# Altium footprint library NPPC252KFMS-RC.PcbLib: 1 footprints
Each footprint in its own frame and in the unit in brackets; x right, y up, seen from the top. Pads: shape width x height; smd on the part's side, far side on the other; paste and mask are expansions set on the pad; w line width, h text height; cw(c..) or ccw(c..) is an arc to the next point about the centre after c.
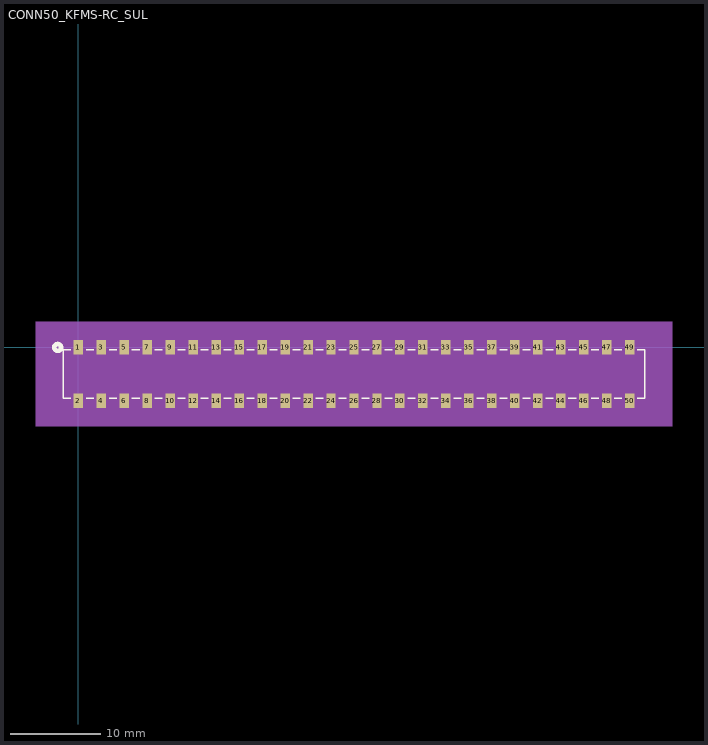
[diagram p0: the footprint, top view; thin cyan lines are the x and y axes]

## CONN50_KFMS-RC_SUL [mil]
pads (50):
  rect 41x63 smd paste+0 mask+0: 1(0,0) 2(0,-231) 3(100,0) 4(100,-231) 5(200,0) 6(200,-231) 7(300,0) 8(300,-231) 9(400,0) 10(400,-231) 11(500,0) 12(500,-231) 13(600,0) 14(600,-231) 15(700,0) 16(700,-231) 17(800,0) 18(800,-231) 19(900,0) 20(900,-231) 21(1000,0) 22(1000,-231) 23(1100,0) 24(1100,-231) 25(1200,0) 26(1200,-231) 27(1300,0) 28(1300,-231) 29(1400,0) 30(1400,-231) 31(1500,0) 32(1500,-231) 33(1600,0) 34(1600,-231) 35(1700,0) 36(1700,-231) 37(1800,0) 38(1800,-231) 39(1900,0) 40(1900,-231) 41(2000,0) 42(2000,-231) 43(2100,0) 44(2100,-231) 45(2200,0) 46(2200,-231) 47(2300,0) 48(2300,-231) 49(2400,0) 50(2400,-231)
Top Overlay:
  circle w20: c-90,0 r15
  lines w6: -33.6,-222 -65,-222 -65,-9 -33.6,-9 ; 33.6,-222 66.4,-222 ; 33.6,-9 66.4,-9 ; 133.6,-222 166.4,-222 ; 133.6,-9 166.4,-9 ; 233.6,-222 266.4,-222 ; 233.6,-9 266.4,-9 ; 333.6,-222 366.4,-222 ; 333.6,-9 366.4,-9 ; 433.6,-222 466.4,-222 ; 433.6,-9 466.4,-9 ; 533.6,-222 566.4,-222 ; 533.6,-9 566.4,-9 ; 633.6,-222 666.4,-222 ; 633.6,-9 666.4,-9 ; 733.6,-222 766.4,-222 ; 733.6,-9 766.4,-9 ; 833.6,-222 866.4,-222 ; 833.6,-9 866.4,-9 ; 933.6,-222 966.4,-222 ; 933.6,-9 966.4,-9 ; 1033.6,-222 1066.4,-222 ; 1033.6,-9 1066.4,-9 ; 1133.6,-222 1166.4,-222 ; 1133.6,-9 1166.4,-9 ; 1233.6,-222 1266.4,-222 ; 1233.6,-9 1266.4,-9 ; 1333.6,-222 1366.4,-222 ; 1333.6,-9 1366.4,-9 ; 1433.6,-222 1466.4,-222 ; 1433.6,-9 1466.4,-9 ; 1533.6,-222 1566.4,-222 ; 1533.6,-9 1566.4,-9 ; 1633.6,-222 1666.4,-222 ; 1633.6,-9 1666.4,-9 ; 1733.6,-222 1766.4,-222 ; 1733.6,-9 1766.4,-9 ; 1833.6,-222 1866.4,-222 ; 1833.6,-9 1866.4,-9 ; 1933.6,-222 1966.4,-222 ; 1933.6,-9 1966.4,-9 ; 2033.6,-222 2066.4,-222 ; 2033.6,-9 2066.4,-9 ; 2133.6,-222 2166.4,-222 ; 2133.6,-9 2166.4,-9 ; 2233.6,-222 2266.4,-222 ; 2233.6,-9 2266.4,-9 ; 2333.6,-222 2366.4,-222 ; 2333.6,-9 2366.4,-9 ; 2433.6,-222 2465,-222 2465,-9 2433.6,-9
Bottom Overlay:
  circle w20: c-90,0 r15
Mechanical 5:
  region: -185,111 2585,111 2585,-342 -185,-342
Mechanical 13:
  circle w20: c0,75 r15
  lines w1: -60,-217 2460,-217 2460,-14 -60,-14 -60,-217
Mechanical 15:
  region: 2470,41.5 -70,41.5 -70,-272.5 2470,-272.5
  lines w6: -70,-272.5 -70,41.5 2470,41.5 2470,-272.5 -70,-272.5
3D body: height 10, standoff 0, extent 0,0 10,10
3D body "SBH11-_ _ _C-D25-SM-_ _.STEP": height 346.46, standoff -71.65, extent -200,-319.53 2595.28,85.98